# Altium footprint library kyocera-C-X7R-Series.PcbLib: 2 footprints
Each footprint in its own frame and in the unit in brackets; x right, y up, seen from the top. Pads: shape width x height; smd on the part's side, far side on the other; paste and mask are expansions set on the pad; w line width, h text height; cw(c..) or ccw(c..) is an arc to the next point about the centre after c.
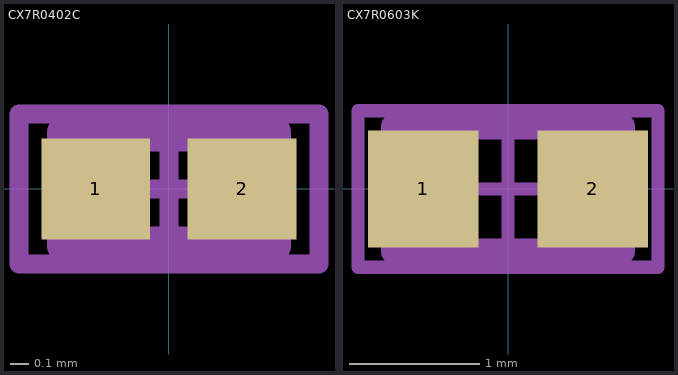
[diagram p0: the footprints below, top view; thin cyan lines are the x and y axes]

## CX7R0402C [mm] "Chip Capacitor, 2-Leads, Body 1.00x0.50mm, IPC High Density"
height 0.56
pads (2):
  rect 0.58x0.54 smd: 1(-0.39,0) 2(0.39,0)
Top Designator:
  text ".Designator" at -0.6,0.7 h0.6
Top Assembly:
  lines w0.2: -0.55,-0.3 -0.55,0.3 0.55,0.3 0.55,-0.3 -0.55,-0.3
Top Courtyard:
  lines w0.1: -0.3,0 0.3,0 ; 0,-0.3 0,0.3 ; -0.8,-0.4 -0.8,0.4 0.8,0.4 0.8,-0.4 -0.8,-0.4
3D body: height 0.56, standoff 0, extent -0.3,-0.3 0.3,0.3
3D body: height 0.56, standoff 0, extent -0.55,-0.3 -0.3,0.3
3D body: height 0.56, standoff 0, extent 0.3,-0.3 0.55,0.3

## CX7R0603K [mm] "Chip Capacitor, 2-Leads, Body 1.60x0.81mm, IPC High Density"
height 1.02
pads (2):
  rect 0.85x0.9 smd: 1(-0.65,0) 2(0.65,0)
Top Assembly:
  lines w0.2: -0.875,-0.48 0.875,-0.48 0.875,0.48 -0.875,0.48 -0.875,-0.48
  text ".Designator" at -0.846,0.921 h0.8
Top Courtyard:
  lines w0.1: -0.48,0 0.48,0 ; 0,-0.48 0,0.48 ; -1.15,-0.6 1.15,-0.6 1.15,0.6 -1.15,0.6 -1.15,-0.6
3D body: height 1.02, standoff 0, extent 0.525,-0.48 0.875,0.48
3D body: height 1.02, standoff 0, extent -0.875,-0.48 -0.525,0.48
3D body: height 1.02, standoff 0, extent -0.525,-0.48 0.525,0.48